# EAGLE library part TINY_RTC7 (library MTS-OTR_Custom)
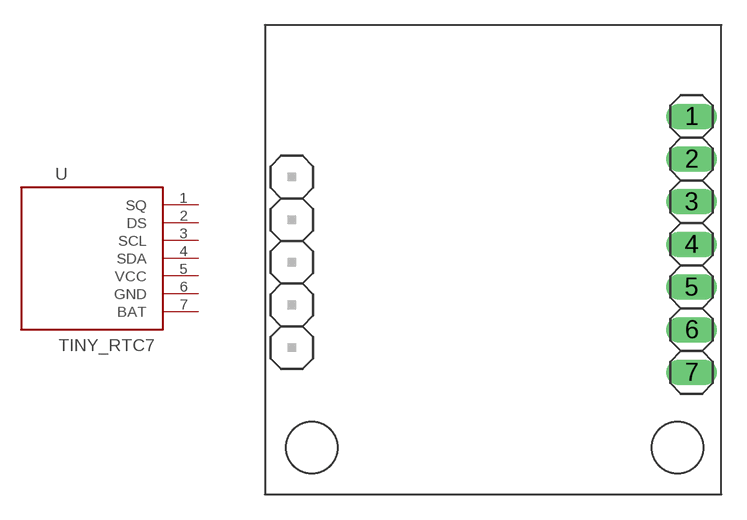
[diagram p19: symbol with the pads of TINY_RTC7; footprint TINY_RTC7]

Designator prefix -

## TINY_RTC7  [TINY_RTC7]
1  SQ
2  DS
3  SCL
4  SDA
5  VCC
6  GND
7  BAT

## Footprint TINY_RTC7 (pad centres in mm)
drill 1.016 long: 1 25.4,22.504; 2 25.4,19.964; 3 25.4,17.424; 4 25.4,14.884; 5 25.4,12.344; 6 25.4,9.804; 7 25.4,7.264